# Altium footprint library Generic_Comp_Footprints.PcbLib: 67 footprints (part 3 of 5)
Each footprint in its own frame and in the unit in brackets; x right, y up, seen from the top. Pads: shape width x height; smd on the part's side, far side on the other; paste and mask are expansions set on the pad; w line width, h text height; cw(c..) or ccw(c..) is an arc to the next point about the centre after c.
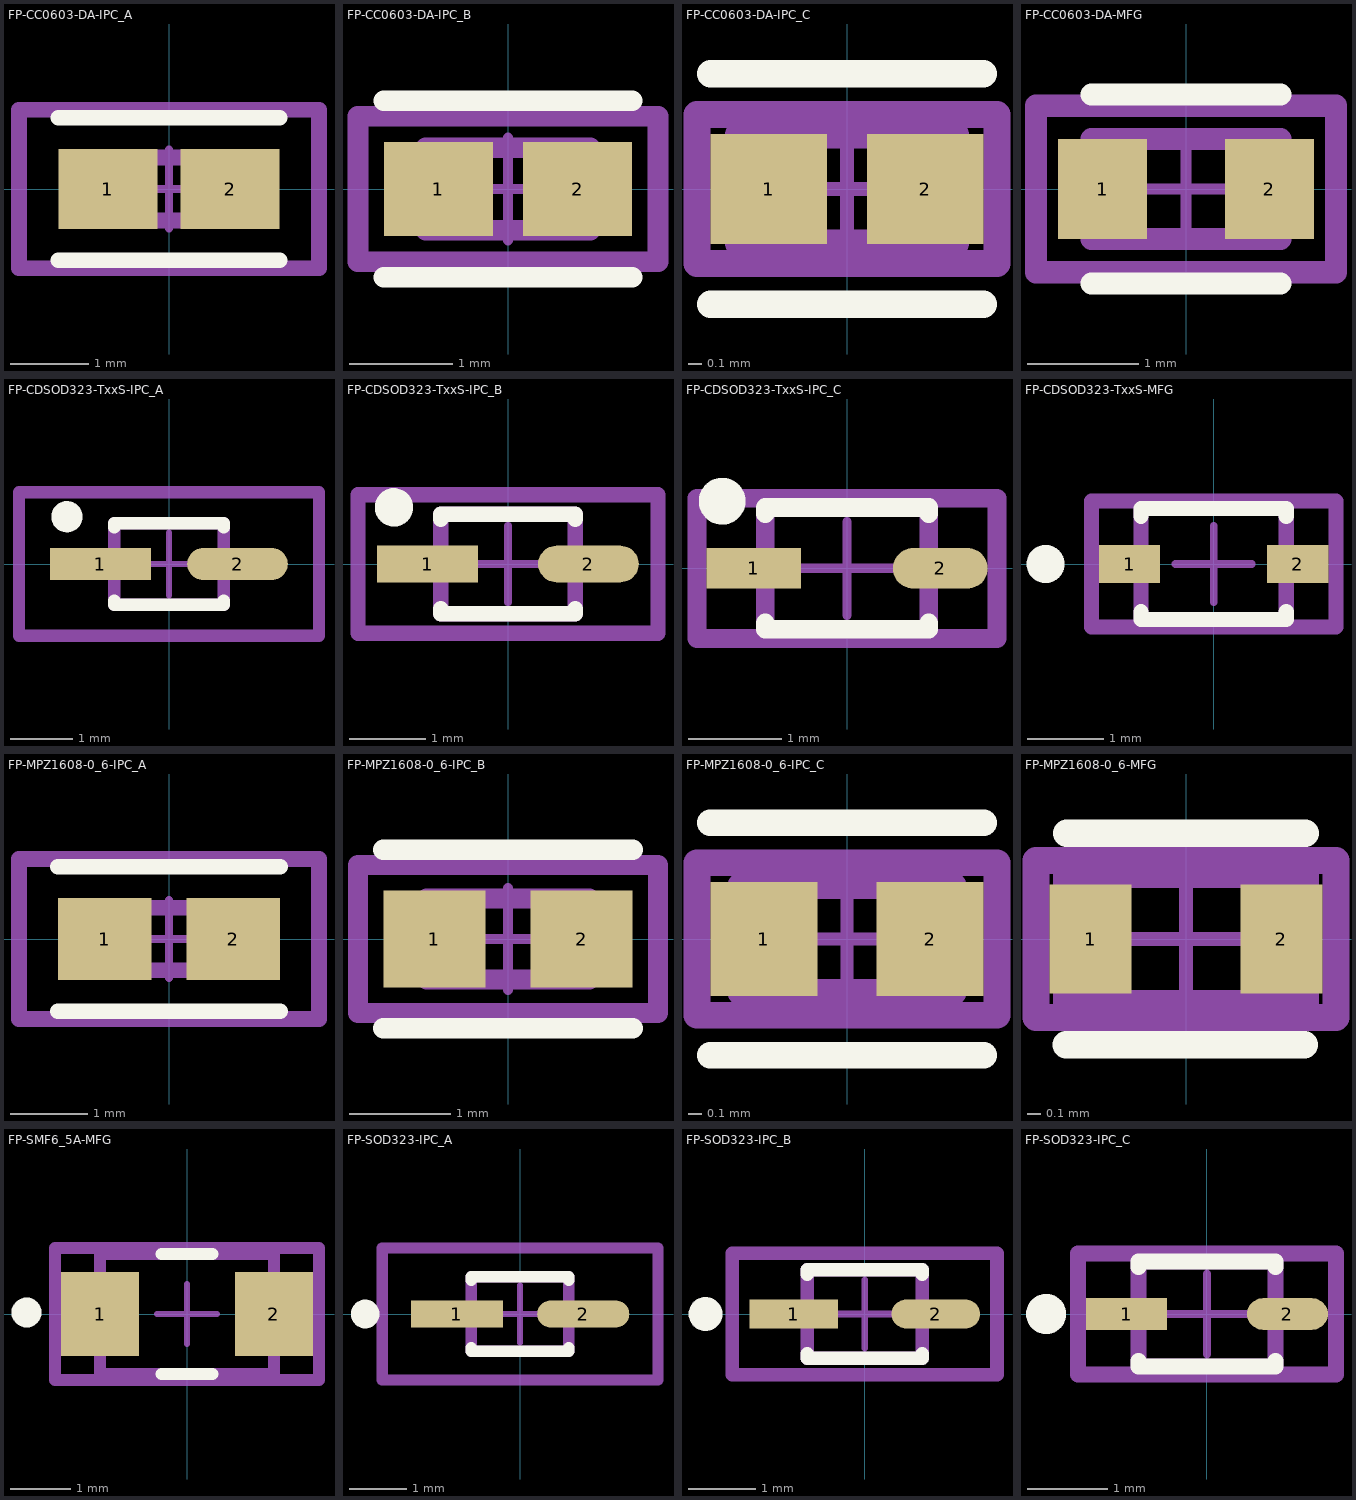
[diagram p2: the footprints below, top view; thin cyan lines are the x and y axes]

## FP-CC0603-DA-IPC_A [mm]
pads (2):
  rect 1.258x1.012 smd paste+0 mask+0: 1(-0.777,0) 2(0.777,0)
Top Overlay:
  lines w0.2: -1.406,-0.906 1.406,-0.906 ; -1.406,0.906 1.406,0.906
Top 3D Body:
  lines w0.2: -0.8,-0.4 0.8,-0.4 0.8,0.4 -0.8,0.4 -0.8,-0.4
Top Courtyard:
  lines w0.2: -1.906,-1.006 1.906,-1.006 1.906,1.006 -1.906,1.006 -1.906,-1.006
Top Assembly:
  lines w0.2: -1.906,-1.006 1.906,-1.006 1.906,1.006 -1.906,1.006 -1.906,-1.006
  text ".Designator" at 0,0.188 h1
Top Component Center:
  lines w0.1: -0.5,0 0.5,0 ; 0,-0.5 0,0.5
3D body "Cap_YAGEO_CC0603KRX7R9BB271_eec.STEP": height 0.25, standoff 0, extent -1.906,-1.006 1.906,1.006

## FP-CC0603-DA-IPC_B [mm]
pads (2):
  rect 1.058x0.912 smd paste+0 mask+0: 1(-0.677,0) 2(0.677,0)
Top Overlay:
  lines w0.2: -1.206,-0.856 1.206,-0.856 ; -1.206,0.856 1.206,0.856
Top 3D Body:
  lines w0.2: -0.8,-0.4 0.8,-0.4 0.8,0.4 -0.8,0.4 -0.8,-0.4
Top Courtyard:
  lines w0.2: -1.456,-0.706 1.456,-0.706 1.456,0.706 -1.456,0.706 -1.456,-0.706
Top Assembly:
  lines w0.2: -1.456,-0.706 1.456,-0.706 1.456,0.706 -1.456,0.706 -1.456,-0.706
  text ".Designator" at 0,0.188 h1
Top Component Center:
  lines w0.1: -0.5,0 0.5,0 ; 0,-0.5 0,0.5
3D body "Cap_YAGEO_CC0603KRX7R9BB271_eec.STEP": height 0.25, standoff 0, extent -1.456,-0.706 1.456,0.706

## FP-CC0603-DA-IPC_C [mm]
pads (2):
  rect 0.858x0.812 smd paste+0 mask+0: 1(-0.577,0) 2(0.577,0)
Top Overlay:
  lines w0.2: -1.006,-0.85 1.006,-0.85 ; -1.006,0.85 1.006,0.85
Top 3D Body:
  lines w0.2: -0.8,-0.4 -0.8,0.4 0.8,0.4 0.8,-0.4 -0.8,-0.4
Top Courtyard:
  lines w0.2: -1.106,-0.55 -1.106,0.55 1.106,0.55 1.106,-0.55 -1.106,-0.55
Top Assembly:
  lines w0.2: -1.106,-0.55 -1.106,0.55 1.106,0.55 1.106,-0.55 -1.106,-0.55
  text ".Designator" at 0,0.188 h1
Top Component Center:
  lines w0.1: -0.5,0 0.5,0 ; 0,-0.5 0,0.5
3D body "Cap_YAGEO_CC0603KRX7R9BB271_eec.STEP": height 0.25, standoff 0, extent -1.106,-0.55 1.106,0.55

## FP-CC0603-DA-MFG [mm]
pads (2):
  rect 0.8x0.9 smd paste+0 mask+0: 1(-0.75,0) 2(0.75,0)
Top Overlay:
  lines w0.2: -0.85,-0.85 0.85,-0.85 ; -0.85,0.85 0.85,0.85
Top 3D Body:
  lines w0.2: -0.85,-0.45 -0.85,0.45 0.85,0.45 0.85,-0.45 -0.85,-0.45
Top Courtyard:
  lines w0.2: -1.35,-0.75 -1.35,0.75 1.35,0.75 1.35,-0.75 -1.35,-0.75
Top Assembly:
  lines w0.2: -1.35,-0.75 -1.35,0.75 1.35,0.75 1.35,-0.75 -1.35,-0.75
  text ".Designator" at 0,0.188 h1
Top Component Center:
  lines w0.1: -0.5,0 0.5,0 ; 0,-0.5 0,0.5
3D body "Cap_YAGEO_CC0603KRX7R9BB271_eec.STEP": height 0.25, standoff 0, extent -1.35,-0.75 1.35,0.75

## FP-CDSOD323-TxxS-IPC_A [mm]
pads (2):
  rect 1.612x0.516 smd paste+0 mask+0: 1(-1.098,0)
  rrect100% 1.612x0.516 smd paste+0 mask+0: 2(1.098,0)
Top Overlay:
  circle w0.25: c-1.635,0.758 r0.125
  lines w0.2: -0.875,-0.585 -0.875,-0.65 0.875,-0.65 0.875,-0.585 ; -0.875,0.585 -0.875,0.65 0.875,0.65 0.875,0.585
Top 3D Body:
  lines w0.2: -0.875,-0.65 -0.875,0.65 0.875,0.65 0.875,-0.65 -0.875,-0.65
Top Courtyard:
  lines w0.2: -2.404,-1.15 -2.404,1.15 2.404,1.15 2.404,-1.15 -2.404,-1.15
Top Assembly:
  lines w0.2: -2.404,-1.15 -2.404,1.15 2.404,1.15 2.404,-1.15 -2.404,-1.15
  text ".Designator" at 0,0.188 h1
Top Component Center:
  lines w0.1: -0.5,0 0.5,0 ; 0,-0.5 0,0.5
3D body "Diode_Bourns_Inc_CDSOD323-T05S_eec.STEP": height 0.25, standoff 0, extent -2.404,-1.15 2.404,1.15

## FP-CDSOD323-TxxS-IPC_B [mm]
pads (2):
  rect 1.312x0.476 smd paste+0 mask+0: 1(-1.048,0)
  rrect100% 1.312x0.476 smd paste+0 mask+0: 2(1.048,0)
Top Overlay:
  circle w0.25: c-1.485,0.738 r0.125
  lines w0.2: -0.875,-0.585 -0.875,-0.65 0.875,-0.65 0.875,-0.585 ; -0.875,0.585 -0.875,0.65 0.875,0.65 0.875,0.585
Top 3D Body:
  lines w0.2: -0.875,-0.65 0.875,-0.65 0.875,0.65 -0.875,0.65 -0.875,-0.65
Top Courtyard:
  lines w0.2: -1.954,-0.9 1.954,-0.9 1.954,0.9 -1.954,0.9 -1.954,-0.9
Top Assembly:
  lines w0.2: -1.954,-0.9 1.954,-0.9 1.954,0.9 -1.954,0.9 -1.954,-0.9
  text ".Designator" at 0,0.188 h1
Top Component Center:
  lines w0.1: -0.5,0 0.5,0 ; 0,-0.5 0,0.5
3D body "Diode_Bourns_Inc_CDSOD323-T05S_eec.STEP": height 0.25, standoff 0, extent -1.954,-0.9 1.954,0.9

## FP-CDSOD323-TxxS-IPC_C [mm]
pads (2):
  rect 1.012x0.436 smd paste+0 mask+0: 1(-0.998,0)
  rrect100% 1.012x0.436 smd paste+0 mask+0: 2(0.998,0)
Top Overlay:
  circle w0.25: c-1.335,0.718 r0.125
  lines w0.2: -0.875,-0.585 -0.875,-0.65 0.875,-0.65 0.875,-0.585 ; -0.875,0.585 -0.875,0.65 0.875,0.65 0.875,0.585
Top 3D Body:
  lines w0.2: -0.875,-0.65 -0.875,0.65 0.875,0.65 0.875,-0.65 -0.875,-0.65
Top Courtyard:
  lines w0.2: -1.604,-0.75 -1.604,0.75 1.604,0.75 1.604,-0.75 -1.604,-0.75
Top Assembly:
  lines w0.2: -1.604,-0.75 -1.604,0.75 1.604,0.75 1.604,-0.75 -1.604,-0.75
  text ".Designator" at 0,0.188 h1
Top Component Center:
  lines w0.1: -0.5,0 0.5,0 ; 0,-0.5 0,0.5
3D body "Diode_Bourns_Inc_CDSOD323-T05S_eec.STEP": height 0.25, standoff 0, extent -1.604,-0.75 1.604,0.75

## FP-CDSOD323-TxxS-MFG [mm]
pads (2):
  rect 0.8x0.5 smd paste+0 mask+0: 1(-1.1,0) 2(1.1,0)
Top Overlay:
  circle w0.25: c-2.2,0 r0.125
  lines w0.2: -0.95,-0.625 -0.95,-0.725 0.95,-0.725 0.95,-0.625 ; -0.95,0.625 -0.95,0.725 0.95,0.725 0.95,0.625
Top 3D Body:
  lines w0.2: -0.95,-0.725 -0.95,0.725 0.95,0.725 0.95,-0.725 -0.95,-0.725
Top Courtyard:
  lines w0.2: -1.6,-0.825 -1.6,0.825 1.6,0.825 1.6,-0.825 -1.6,-0.825
Top Assembly:
  lines w0.2: -1.6,-0.825 -1.6,0.825 1.6,0.825 1.6,-0.825 -1.6,-0.825
  text ".Designator" at 0,0.188 h1
Top Component Center:
  lines w0.1: -0.5,0 0.5,0 ; 0,-0.5 0,0.5
3D body "Diode_Bourns_Inc_CDSOD323-T05S_eec.STEP": height 0.25, standoff 0, extent -1.6,-0.825 1.6,0.825

## FP-MPZ1608-0_6-IPC_A [mm]
pads (2):
  rect 1.206x1.058 smd paste+0 mask+0: 1(-0.826,0) 2(0.826,0)
Top Overlay:
  lines w0.2: -1.429,-0.929 1.429,-0.929 ; -1.429,0.929 1.429,0.929
Top 3D Body:
  lines w0.2: -0.8,-0.4 0.8,-0.4 0.8,0.4 -0.8,0.4 -0.8,-0.4
Top Courtyard:
  lines w0.2: -1.929,-1.029 1.929,-1.029 1.929,1.029 -1.929,1.029 -1.929,-1.029
Top Assembly:
  lines w0.2: -1.929,-1.029 1.929,-1.029 1.929,1.029 -1.929,1.029 -1.929,-1.029
  text ".Designator" at 0,0.188 h1
Top Component Center:
  lines w0.1: -0.5,0 0.5,0 ; 0,-0.5 0,0.5
3D body "FBead_TDK_MPZ1608S300ATDH5_eec.STEP": height 0.25, standoff 0, extent -1.929,-1.029 1.929,1.029

## FP-MPZ1608-0_6-IPC_B [mm]
pads (2):
  rect 1.006x0.958 smd paste+0 mask+0: 1(-0.726,0) 2(0.726,0)
Top Overlay:
  lines w0.2: -1.229,-0.879 1.229,-0.879 ; -1.229,0.879 1.229,0.879
Top 3D Body:
  lines w0.2: -0.8,-0.4 0.8,-0.4 0.8,0.4 -0.8,0.4 -0.8,-0.4
Top Courtyard:
  lines w0.2: -1.479,-0.729 1.479,-0.729 1.479,0.729 -1.479,0.729 -1.479,-0.729
Top Assembly:
  lines w0.2: -1.479,-0.729 1.479,-0.729 1.479,0.729 -1.479,0.729 -1.479,-0.729
  text ".Designator" at 0,0.188 h1
Top Component Center:
  lines w0.1: -0.5,0 0.5,0 ; 0,-0.5 0,0.5
3D body "FBead_TDK_MPZ1608S300ATDH5_eec.STEP": height 0.25, standoff 0, extent -1.479,-0.729 1.479,0.729

## FP-MPZ1608-0_6-IPC_C [mm]
pads (2):
  rect 0.806x0.858 smd paste+0 mask+0: 1(-0.626,0) 2(0.626,0)
Top Overlay:
  lines w0.2: -1.029,-0.875 1.029,-0.875 ; -1.029,0.875 1.029,0.875
Top 3D Body:
  lines w0.2: -0.8,-0.4 0.8,-0.4 0.8,0.4 -0.8,0.4 -0.8,-0.4
Top Courtyard:
  lines w0.2: -1.129,-0.575 1.129,-0.575 1.129,0.575 -1.129,0.575 -1.129,-0.575
Top Assembly:
  lines w0.2: -1.129,-0.575 1.129,-0.575 1.129,0.575 -1.129,0.575 -1.129,-0.575
  text ".Designator" at 0,0.188 h1
Top Component Center:
  lines w0.1: -0.5,0 0.5,0 ; 0,-0.5 0,0.5
3D body "FBead_TDK_MPZ1608S300ATDH5_eec.STEP": height 0.25, standoff 0, extent -1.129,-0.575 1.129,0.575

## FP-MPZ1608-0_6-MFG [mm]
pads (2):
  rect 0.6x0.8 smd paste+0 mask+0: 1(-0.7,0) 2(0.7,0)
Top Overlay:
  lines w0.2: -0.88,-0.775 0.87,-0.775 ; -0.875,0.775 0.875,0.775
Top 3D Body:
  lines w0.2: -0.875,-0.475 -0.875,0.475 0.875,0.475 0.875,-0.475 -0.875,-0.475
Top Courtyard:
  lines w0.2: -1.1,-0.575 -1.1,0.575 1.1,0.575 1.1,-0.575 -1.1,-0.575
Top Assembly:
  lines w0.2: -1.1,-0.575 -1.1,0.575 1.1,0.575 1.1,-0.575 -1.1,-0.575
  text ".Designator" at 0,0.188 h1
Top Component Center:
  lines w0.1: -0.5,0 0.5,0 ; 0,-0.5 0,0.5
3D body "FBead_TDK_MPZ1608S300ATDH5_eec.STEP": height 0.25, standoff 0, extent -1.1,-0.575 1.1,0.575

## FP-SMF6_5A-MFG [mm]
pads (2):
  rect 1.3x1.4 smd paste+0 mask+0: 1(-1.45,0) 2(1.45,0)
Top Overlay:
  circle w0.25: c-2.675,0.025 r0.125
  lines w0.2: -0.425,-1 0.425,-1 ; -0.425,1 0.425,1
Top 3D Body:
  lines w0.2: -1.45,-1 1.45,-1 1.45,1 -1.45,1 -1.45,-1
Top Courtyard:
  lines w0.2: -2.2,-1.1 2.2,-1.1 2.2,1.1 -2.2,1.1 -2.2,-1.1
Top Assembly:
  lines w0.2: -2.2,-1.1 2.2,-1.1 2.2,1.1 -2.2,1.1 -2.2,-1.1
  text ".Designator" at 0,0 h1
Top Component Center:
  lines w0.1: -0.5,0 0.5,0 ; 0,-0.5 0,0.5
3D body "Diode_Littelfuse_Inc_SMF6_5A_eec.STEP": height 0.25, standoff 0, extent -2.2,-1.1 2.2,1.1

## FP-SOD323-IPC_A [mm]
pads (2):
  rect 1.606x0.472 smd paste+0 mask+0: 1(-1.1,0)
  rrect100% 1.606x0.472 smd paste+0 mask+0: 2(1.1,0)
Top Overlay:
  circle w0.25: c-2.7,0 r0.125
  lines w0.2: -0.85,-0.585 -0.85,-0.65 0.85,-0.65 0.85,-0.585 ; -0.85,0.585 -0.85,0.65 0.85,0.65 0.85,0.585
Top 3D Body:
  lines w0.2: -0.85,-0.65 -0.85,0.65 0.85,0.65 0.85,-0.65 -0.85,-0.65
Top Courtyard:
  lines w0.2: -2.403,-1.15 -2.403,1.15 2.403,1.15 2.403,-1.15 -2.403,-1.15
Top Assembly:
  lines w0.2: -2.403,-1.15 -2.403,1.15 2.403,1.15 2.403,-1.15 -2.403,-1.15
  text ".Designator" at 0,0.188 h1
Top Component Center:
  lines w0.1: -0.5,0 0.5,0 ; 0,-0.5 0,0.5
3D body "Diode_Diodes_Inc_BAV19WS-7-F_eec.STEP": height 0.25, standoff 0, extent -2.403,-1.15 2.403,1.15

## FP-SOD323-IPC_B [mm]
pads (2):
  rect 1.306x0.432 smd paste+0 mask+0: 1(-1.05,0)
  rrect100% 1.306x0.432 smd paste+0 mask+0: 2(1.05,0)
Top Overlay:
  circle w0.25: c-2.35,0 r0.125
  lines w0.2: -0.85,-0.585 -0.85,-0.65 0.85,-0.65 0.85,-0.585 ; -0.85,0.585 -0.85,0.65 0.85,0.65 0.85,0.585
Top 3D Body:
  lines w0.2: -0.85,-0.65 0.85,-0.65 0.85,0.65 -0.85,0.65 -0.85,-0.65
Top Courtyard:
  lines w0.2: -1.953,-0.9 1.953,-0.9 1.953,0.9 -1.953,0.9 -1.953,-0.9
Top Assembly:
  lines w0.2: -1.953,-0.9 1.953,-0.9 1.953,0.9 -1.953,0.9 -1.953,-0.9
  text ".Designator" at 0,0.188 h1
Top Component Center:
  lines w0.1: -0.5,0 0.5,0 ; 0,-0.5 0,0.5
3D body "Diode_Diodes_Inc_BAV19WS-7-F_eec.STEP": height 0.25, standoff 0, extent -1.953,-0.9 1.953,0.9

## FP-SOD323-IPC_C [mm]
pads (2):
  rect 1.006x0.392 smd paste+0 mask+0: 1(-1,0)
  rrect100% 1.006x0.392 smd paste+0 mask+0: 2(1,0)
Top Overlay:
  circle w0.25: c-2,0 r0.125
  lines w0.2: -0.85,-0.585 -0.85,-0.65 0.85,-0.65 0.85,-0.585 ; -0.85,0.585 -0.85,0.65 0.85,0.65 0.85,0.585
Top 3D Body:
  lines w0.2: -0.85,-0.65 -0.85,0.65 0.85,0.65 0.85,-0.65 -0.85,-0.65
Top Courtyard:
  lines w0.2: -1.603,-0.75 -1.603,0.75 1.603,0.75 1.603,-0.75 -1.603,-0.75
Top Assembly:
  lines w0.2: -1.603,-0.75 -1.603,0.75 1.603,0.75 1.603,-0.75 -1.603,-0.75
  text ".Designator" at 0,0.188 h1
Top Component Center:
  lines w0.1: -0.5,0 0.5,0 ; 0,-0.5 0,0.5
3D body "Diode_Diodes_Inc_BAV19WS-7-F_eec.STEP": height 0.25, standoff 0, extent -1.603,-0.75 1.603,0.75